# Altium integrated library Sitiboard_2.IntLib: 32 symbols
Pins are listed as number, name and electrical type; pins without a type are passive.

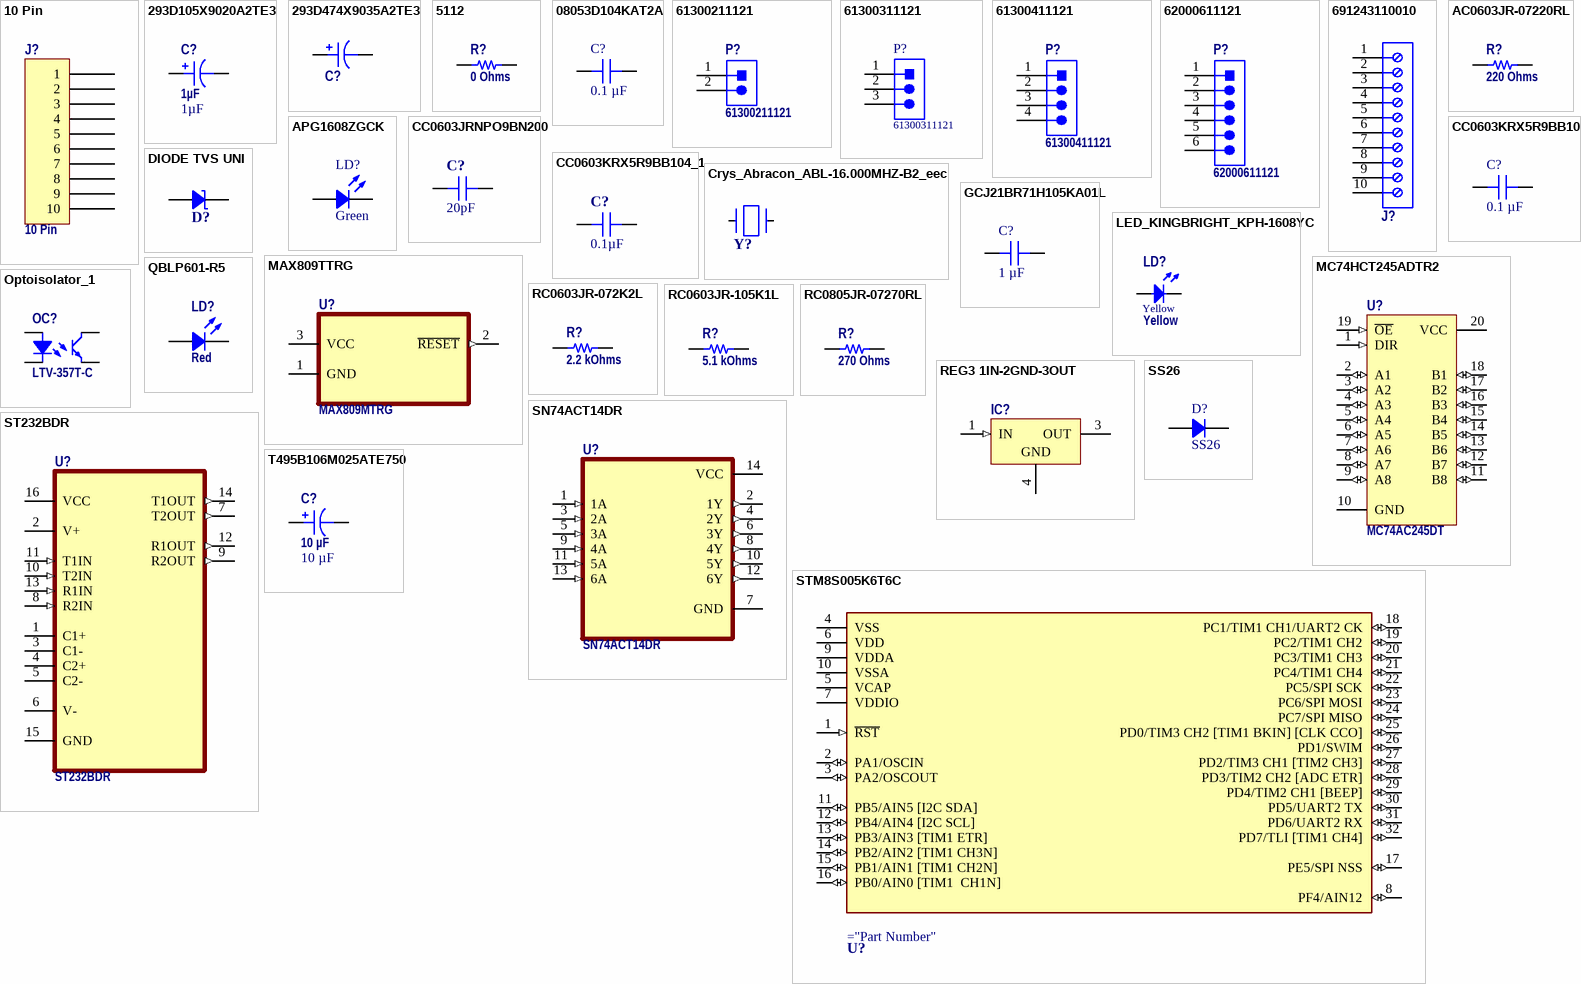
[diagram p0: symbols 10 Pin to T495B106M025ATE750]

## 10 Pin
designator J?
footprint CON: IDC-10MS (IDC-10MS 10 pin PCB-mount header)
footprint CON: IDC-10MS - 1_7mm
pins: 1, 2, 3, 4, 5, 6, 7, 8, 9, 10

## 293D105X9020A2TE3
designator C?, comment 1µF
CAP TANT 1UF 10% 20V 1206; Part Number: 293D105X9020A2TE3; Manufacturer: Vishay Sprague; Manufacturer Size Code: A; ESR (Equivalent Series Resistance): 8.4Ohm; Type: Molded; Value: 1µF; Capacitance: 1µF; ComponentLink1Description: Datasheet; ComponentLink1URL: http://www.vishay.com/docs/40002/293d.pdf; ComponentLink2Description: DigiKey Link; ComponentLink2URL: http://digikey.com/product-detail/en/vishay-sprague/293D105X9020A2TE3/718-1114-1-ND/1559608; Device Package: 1206 (3216 Metric); Features: General Purpose; Height - Seated (Max): 0.071" (1.80mm); LastUpdated: 02.09.2020 1:15:57; Lifecycle Status: Active; Minimum Order: 1; Mounting Type: Surface Mount; Operating Temperature: -55°C ~ 125°C; Package / Case: 1206 (3216 Metric); Packaging: TapeAndReel; PartId: 822; Part Status: Active; Price: 0.11; Series: TANTAMOUNT®, 293D; Size / Dimension: 0.126" L x 0.063" W (3.20mm x 1.60mm); Supplier 1: DigiKey; Supplier Part Number 1: 718-1114-1-ND; Tolerance: ±10%; Voltage - Rated: 20V
footprint CAP POL 1206_3216
pins: 1, 2

## 293D474X9035A2TE3
designator C?, comment 0.47µF  (value not drawn)
CAP TANT 0.47UF 10% 35V 1206; Part Number: 293D474X9035A2TE3; Manufacturer: Vishay Sprague; Manufacturer Size Code: A; ESR (Equivalent Series Resistance): 10Ohm; Type: Molded; Value: 0.47µF; Capacitance: 0.47µF; ComponentLink1Description: Datasheet; ComponentLink1URL: http://www.vishay.com/docs/40002/293d.pdf; ComponentLink2Description: DigiKey Link; ComponentLink2URL: http://digikey.com/product-detail/en/vishay-sprague/293D474X9035A2TE3/718-1808-1-ND/2259950; Device Package: 1206 (3216 Metric); Features: General Purpose; Height - Seated (Max): 0.071" (1.80mm); LastUpdated: 02.09.2020 1:15:57; Lifecycle Status: Active; Minimum Order: 1; Mounting Type: Surface Mount; Operating Temperature: -55°C ~ 125°C; Package / Case: 1206 (3216 Metric); Packaging: TapeAndReel; PartId: 592; Part Status: Active; Price: 0.12; Series: TANTAMOUNT®, 293D; Size / Dimension: 0.126" L x 0.063" W (3.20mm x 1.60mm); Supplier 1: DigiKey; Supplier Part Number 1: 718-1808-1-ND; Tolerance: ±10%; Voltage - Rated: 35V
footprint CAP POL 1206_3216
pins: 1, 2

## 5112
designator R?, comment 0 Ohms
0402 JUMPER ON TAPE AND REEL; Part Number: 5112; Manufacturer: Keystone Electronics; Power (Watts): 0.5W, 1/2W; Value: 0 Ohms; ComponentLink1Description: Datasheet; ComponentLink1URL: http://www.keystoneelectronics.net/ENG._DEPT/WEB_ORACLE/PDF/PDF%20CAT%20NO%20DRAWINGS/5000-5999/5112.PDF; ComponentLink2Description: DigiKey Link; ComponentLink2URL: https://www.digikey.com/en/products/detail/keystone-electronics/5112/9921836; Composition: Metal Element; Device Package: 0402 (1005 Metric); Height - Seated (Max): 0.020" (0.50mm); LastUpdated: 02.01.2023 20:21:07; Lifecycle Status: Active; Minimum Order: 1; Number of Terminations: 2; Package / Case: 0402 (1005 Metric); Packaging: TapeAndReel; PartId: 12597; Part Status: Active; Price: 0.16; Resistance: 0 Ohms; Series: -; Size / Dimension: 0.039" L x 0.020" W (1.00mm x 0.50mm); Supplier 1: DigiKey; Supplier Part Number 1: 36-5112-1-ND; Supplier Device Package: 0402; Tolerance: Jumper
footprint RES 0402_1005
pins: 1, 2

## 08053D104KAT2A
designator C?, comment 0.1 µF
CAP CER 0.1UF 25V X5R 0805; Part Number: 08053D104KAT2A; manufacturer: KYOCERA AVX; Tolerance: ±10%; Value: 0.1 µF; Applications: General Purpose; Capacitance: 0.1 µF; componentlink1description: Datasheet; componentlink1url: https://datasheets.kyocera-avx.com/cx5r.pdf; componentlink2description: DigiKey Link; componentlink2url: https://www.digikey.com/en/products/detail/kyocera-avx/08053D104KAT2A/2345252; Device Package: 0805 (2012 Metric); lastupdated: 23.05.2022 12:57:19; Lifecycle Status: Active; Minimum Order: 1; Mounting Type: Surface Mount, MLCC; Operating Temperature: -55°C ~ 85°C; Package / Case: 0805 (2012 Metric); packaging: TapeAndReel; partid: 33475; Part Status: Active; price: 0.04; series: -; Size / Dimension: 0.079" L x 0.049" W (2.01mm x 1.25mm); Supplier 1: DigiKey; Supplier Part Number 1: 478-08053D104KAT2ACT-ND; Temperature Coefficient: X5R; Thickness (Max): 0.055" (1.40mm); Voltage - Rated: 25V
footprint CAP 0805_2012
pins: 1, 2

## 61300211121
designator P?
WR-PHD Pin Header, THT, pitch 2.54mm, Single Row, Vertical, 2p; Manufacturer: Wurth Elektronik; Pin Number: 2; Rated Current: 3A; Working Voltage: 250VAC; Withstanding Voltage: 500VAC; Contact Resistance: 20mOhm; ComponentLink1Description: Manufacturer; ComponentLink1URL: http://www.we-online.de; ComponentLink2Description: Datasheet; ComponentLink2URL: https://www.we-online.com/catalog/datasheet/61300211121.pdf; Manufacturer Part Number: 61300211121; Pitch: 2.54mm; Operating Temperature: -40 to +105degC; Mounting Technology: THT; Packaging: Bag; Gender: Pin Header; Row Number: Single; Orientation: Vertical
footprint 61300211121
pins: 1, 2

## 61300311121
designator P?
WR-PHD Pin Header, THT, pitch 2.54mm, Single Row, Vertical, 3p; Manufacturer: Wurth Elektronik; Pin Number: 3; Rated Current: 3A; Working Voltage: 250VAC; Withstanding Voltage: 500VAC; Contact Resistance: 20mOhm; ComponentLink1Description: Manufacturer; ComponentLink1URL: http://www.we-online.de; ComponentLink2Description: Datasheet; ComponentLink2URL: https://www.we-online.com/catalog/datasheet/61300311121.pdf; Manufacturer Part Number: 61300311121; Pitch: 2.54mm; Operating Temperature: -40 to +105degC; Mounting Technology: THT; Packaging: Bag; Gender: Pin Header; Row Number: Single; Orientation: Vertical
footprint 61300311121
pins: 1, 2, 3

## 61300411121
designator P?
WR-PHD Pin Header, THT, pitch 2.54mm, Single Row, Vertical, 4p; Manufacturer: Wurth Elektronik; Pin Number: 4; Rated Current: 3A; Working Voltage: 250VAC; Withstanding Voltage: 500VAC; Contact Resistance: 20mOhm; ComponentLink1Description: Manufacturer; ComponentLink1URL: http://www.we-online.de; ComponentLink2Description: Datasheet; ComponentLink2URL: https://www.we-online.com/catalog/datasheet/61300411121.pdf; Manufacturer Part Number: 61300411121; Pitch: 2.54mm; Operating Temperature: -40 to +105degC; Mounting Technology: THT; Packaging: Bag; Gender: Pin Header; Row Number: Single; Orientation: Vertical
footprint 61300411121
pins: 1, 2, 3, 4

## 62000611121
designator P?
WR-PHD Pin Header, THT, pitch 2mm, Single Row, Vertical, 6p; Manufacturer: Wurth Elektronik; Pin Number: 6; Rated Current: 2A; Working Voltage: 200VAC; Withstanding Voltage: 500VAC; Contact Resistance: 20mOhm; ComponentLink1Description: Manufacturer; ComponentLink1URL: http://www.we-online.de; ComponentLink2Description: Datasheet; ComponentLink2URL: https://www.we-online.com/catalog/datasheet/62000611121.pdf; Manufacturer Part Number: 62000611121; Pitch: 2mm; Operating Temperature: -40 to +105degC; Mounting Technology: THT; Packaging: Bag; Gender: Pin Header; Row Number: Single; Orientation: Vertical
footprint 62000611121
pins: 1, 2, 3, 4, 5, 6

## 691243110010
designator J?  (value not drawn)
WR-TBL Serie 2431 Horizontal Cable Entry, Rising Cage Clamp, THT, pitch 3.5mm, 10p; Manufacturer: Wurth Elektronik; Modularity: No; PCB/Cable/Panel: PCB; Pin Number: 10; Rated Current [UL]: 10A; Working Voltage [UL]: 300VAC; ComponentLink1Description: Manufacturer; ComponentLink1URL: http://www.we-online.de; ComponentLink2URL: https://katalog.we-online.de/em/datasheet/691243110010.pdf; ComponentLink2Description: Datasheet; Mounting Technology: THT; Manufacturer Part Number: 691243110010; Packaging: Box; Operating Temperature: -30 to +120degC; Pitch: 3.5mm; Published Date: Feburary 2021; Type: Horizontal; Application: Rising Cage Clamp
footprint 691243110010
pins: 1, 2, 3, 4, 5, 6, 7, 8, 9, 10

## AC0603JR-07220RL
designator R?, comment 220 Ohms
RES SMD 220 OHM 5% 1/10W 0603; Part Number: AC0603JR-07220RL; Manufacturer: Yageo; Power (Watts): 0.1W, 1/10W; Temperature Coefficient: ±100ppm/°C; Value: 220 Ohms; ComponentLink1Description: Datasheet; ComponentLink1URL: https://www.yageo.com/upload/media/product/productsearch/datasheet/rchip/PYu-AC_51_RoHS_L_7.pdf; ComponentLink2Description: DigiKey Link; ComponentLink2URL: http://digikey.com/product-detail/en/yageo/AC0603JR-07220RL/YAG3652CT-ND/6006501; Composition: Thick Film; Device Package: 0603 (1608 Metric); Features: Automotive AEC-Q200, Moisture Resistant; Height - Seated (Max): 0.022" (0.55mm); LastUpdated: 02.09.2020 1:10:02; Lifecycle Status: Active; Minimum Order: 1; Number of Terminations: 2; Operating Temperature: -55°C ~ 155°C; Package / Case: 0603 (1608 Metric); Packaging: CutTape; PartId: 15757; Part Status: Active; Price: 0.10; Ratings: AEC-Q200; Resistance: 220 Ohms; Series: AC; Size / Dimension: 0.063" L x 0.031" W (1.60mm x 0.80mm); Supplier 1: DigiKey; Supplier Part Number 1: YAG3652CT-ND; Supplier Device Package: 0603; Tolerance: ±5%
footprint RES 0603_1608
pins: 1, 2

## APG1608ZGCK
designator LD?, comment Green
LED GREEN CLEAR 0603 SMD; Part Number: APG1608ZGCK; Manufacturer: Kingbright; Configuration: Independent; Current - Test: 20mA; Lens Color: Colorless; Lens Size: 1.20mm x 0.80mm; Lens Style: Rectangle with Flat Top; Millicandela Rating: 400mcd; Viewing Angle: 130°; Voltage - Forward (Vf) (Typ): 3.3V; Wavelength - Dominant: 525nm; Wavelength - Peak: 515nm; Color: Green; ComponentLink1Description: Datasheet; ComponentLink1URL: http://www.kingbrightusa.com/images/catalog/SPEC/APG1608ZGCK.pdf; ComponentLink2Description: DigiKey Link; ComponentLink2URL: https://www.digikey.com/en/products/detail/kingbright/APG1608ZGCK/7318966; Device Package: 0603 (1608 Metric); Height (Max): 0.28mm; LastUpdated: 14.06.2022 21:41:41; Lens Transparency: Clear; Lifecycle Status: Active; Minimum Order: 1; Mounting Type: Surface Mount; Package / Case: 0603 (1608 Metric); Packaging: TapeAndReel; PartId: 627; Part Status: Active; Price: 0.14; Series: -; Size / Dimension: 1.60mm L x 0.80mm W; Supplier 1: DigiKey; Supplier Part Number 1: 754-2113-1-ND; Supplier Device Package: 0603; Value: Green
footprint LED 0603_1608 GREEN
pins: 1, 2

## CC0603JRNPO9BN200
designator C?, comment 20pF
CAP CER 20PF 50V C0G/NPO 0603; Part Number: CC0603JRNPO9BN200; Manufacturer: Yageo; Temperature Coefficient: C0G, NP0; Tolerance: ±5%; Value: 20pF; Applications: General Purpose; Capacitance: 20pF; ComponentLink1Description: Datasheet; ComponentLink1URL: https://www.yageo.com/upload/media/product/productsearch/datasheet/mlcc/UPY-GP_NP0_16V-to-50V_17.pdf; ComponentLink2Description: DigiKey Link; ComponentLink2URL: http://digikey.com/product-detail/en/yageo/CC0603JRNPO9BN200/311-1424-1-ND/2833730; Device Package: 0603 (1608 Metric); LastUpdated: 02.09.2020 1:03:05; Lifecycle Status: Active; Minimum Order: 1; Mounting Type: Surface Mount, MLCC; Operating Temperature: -55°C ~ 125°C; Package / Case: 0603 (1608 Metric); Packaging: TapeAndReel; PartId: 16728; Part Status: Active; Price: 0.01; Series: CC; Size / Dimension: 0.063" L x 0.031" W (1.60mm x 0.80mm); Supplier 1: DigiKey; Supplier Part Number 1: 311-1424-1-ND; Thickness (Max): 0.035" (0.90mm); Voltage - Rated: 50V
footprint CAP 0603_1608
pins: 1, 2

## CC0603KRX5R9BB104
designator C?, comment 0.1 µF
CAP CER 0.1UF 50V X5R 0603; Part Number: CC0603KRX5R9BB104; manufacturer: Yageo; Tolerance: ±10%; Value: 0.1 µF; Applications: General Purpose; Capacitance: 0.1 µF; componentlink1description: Datasheet; componentlink1url: https://www.yageo.com/upload/media/product/productsearch/datasheet/mlcc/UPY-GPHC_X5R_4V-to-50V_25.pdf; componentlink2description: DigiKey Link; componentlink2url: https://www.digikey.com/en/products/detail/yageo/CC0603KRX5R9BB104/5883729; Device Package: 0603 (1608 Metric); lastupdated: 14.06.2022 2:43:49; Lifecycle Status: Active; Minimum Order: 1; Mounting Type: Surface Mount, MLCC; Operating Temperature: -55°C ~ 85°C; Package / Case: 0603 (1608 Metric); packaging: TapeAndReel; partid: 15794; Part Status: Active; price: 0.01; series: CC; Size / Dimension: 0.063" L x 0.031" W (1.60mm x 0.80mm); Supplier 1: DigiKey; Supplier Part Number 1: 311-4046-1-ND; Temperature Coefficient: X5R; Thickness (Max): 0.035" (0.90mm); Voltage - Rated: 50V
footprint CAP 0603_1608
pins: 1, 2

## CC0603KRX5R9BB104_1
designator C?, comment 0.1µF
CAP CER 0.1UF 50V X5R 0603; Part Number: CC0603KRX5R9BB104; Manufacturer: Yageo; Tolerance: ±10%; Value: 0.1µF; Applications: General Purpose; Capacitance: 0.1µF; ComponentLink1Description: Datasheet; ComponentLink1URL: https://www.yageo.com/upload/media/product/productsearch/datasheet/mlcc/UPY-GPHC_X5R_4V-to-50V_25.pdf; ComponentLink2Description: DigiKey Link; ComponentLink2URL: http://digikey.com/product-detail/en/yageo/CC0603KRX5R9BB104/311-4046-1-ND/8025135; Device Package: 0603 (1608 Metric); LastUpdated: 02.09.2020 1:03:08; Lifecycle Status: Active; Minimum Order: 1; Mounting Type: Surface Mount, MLCC; Operating Temperature: -55°C ~ 85°C; Package / Case: 0603 (1608 Metric); Packaging: TapeAndReel; PartId: 15794; Part Status: Active; Price: 0.01; Series: CC; Size / Dimension: 0.063" L x 0.031" W (1.60mm x 0.80mm); Supplier 1: DigiKey; Supplier Part Number 1: 311-4046-1-ND; Temperature Coefficient: X5R; Thickness (Max): 0.035" (0.90mm); Voltage - Rated: 50V
footprint CAP 0603_1608
pins: 1, 2

## Crys_Abracon_ABL-16.000MHZ-B2_eec
designator Y?  (value not drawn)
CRYS 16MHz ±20ppm Crystal 18pF 40 Ohm -20°C ~ 70°C Through Hole HC49/US; Frequency Stability: ±50ppm; ESR: 40 Ohm; Operating Mode: Fundamental; Part Number: ABL-16.000MHZ-B2; helpURL: https://upverter.com/upn/revision/7ebf07e1da2eb130/; ComponentLink2Description: Datasheet; Temperature: 0ºC to +70ºC; Package: HC/49US; Supplier 2: Mouser; Price: 0.175999999027; Supplier 1: Digi-Key; ComponentLink1URL: https://upverter.com/upn/revision/7ebf07e1da2eb130/; Supplier Part Number 2: 815-ABL-16-B2; Supplier Part Number 1: 535-9041-ND; Manufacturer: Abracon; ComponentLink1Description: Upverter; ComponentLink2URL: http://www.abracon.com/Resonators/ABL.pdf; RoHS: TRUE; Mouser Part Number: 815-ABL-16-B2; Frequency Tolerance: ±20ppm; Temperature Range High: +70ºC; Digikey Description: CRYS 16MHz ±20ppm Crystal 18pF 40 Ohm -20°C ~ 70°C Through Hole HC49/US; Digikey Part Number: 535-9041-ND; Lead Free: yes; Temperature Range Low: 0ºC; Load Capacitance: 18pF; Frequency: 16MHz
footprint Abracon_ABL-16.000MHZ-B2_0
pins: 1, 2

## DIODE TVS UNI
designator D?, comment SMBJ15CA-E3/52  (value not drawn)
Rectifier Diode
footprint DO214AA SMB (Molded Diode, 2-Leads, Body 4.31x3.62mm, IPC Medium Density)
pins: 1, 2

## GCJ21BR71H105KA01L
designator C?, comment 1 µF
CAP CER 1UF 50V X7R 0805; Part Number: GCJ21BR71H105KA01L; manufacturer: Murata Electronics; Tolerance: ±10%; Value: 1 µF; Applications: Automotive, Boardflex Sensitive; Capacitance: 1 µF; componentlink1description: Datasheet; componentlink1url: https://www.murata.com/~/media/webrenewal/support/library/catalog/products/capacitor/mlcc/c03e.ashx?la=en-us; componentlink2description: DigiKey Link; componentlink2url: https://www.digikey.com/en/products/detail/murata-electronics/GCJ21BR71H105KA01L/4903512; Device Package: 0805 (2012 Metric); Features: Soft Termination; lastupdated: 23.05.2022 12:58:09; Lifecycle Status: Active; Minimum Order: 1; Mounting Type: Surface Mount, MLCC; Operating Temperature: -55°C ~ 125°C; Package / Case: 0805 (2012 Metric); packaging: TapeAndReel; partid: 2709; Part Status: Active; price: 0.06; Ratings: AEC-Q200; series: GCJ; Size / Dimension: 0.079" L x 0.049" W (2.00mm x 1.25mm); Supplier 1: DigiKey; Supplier Part Number 1: 490-10667-1-ND; Temperature Coefficient: X7R; Thickness (Max): 0.057" (1.45mm); Voltage - Rated: 50V
footprint CAP 0805_2012
pins: 1, 2

## LED_KINGBRIGHT_KPH-1608YC
designator LD?, comment Yellow
LED Yellow 1C 2A; Part Number: LED_KINGBRIGHT_KPH-1608YC; Part Description: SMD Yellow LED, Case 1.6mmX0.8mm(0603), 0.65mm Thickness; Manufacturer: KINGBRIGHT; Manufacturer Part Number: KPH-1608YC; PressFit: No; Bonding: No; Component Kind: Standard; Component Type: Standard; Color: Yellow; Footprint: LED_KINGBRIGHT_KPH-1608YC; PackageDescription: SMT Yellow LED, Case 0603, Body L 1.6 x W 0.8mm H 0.65mm; Pin Count: 2; Mounted: Yes; Socket: No; SMD: Yes; Sense: No; ComponentHeight: 0.65mm; HelpURL: \\cern.ch\dfs\Applications\Altium\Datasheets\LED_KINGBRIGHT_KPH-1608YC.pdf; Author: CERN DEM JLC; CreateDate: 03.07.2017; LatestRevisionDate: 03.07.2017
footprint LED_KINGBRIGHT_KPH-1608YC
pins: 1 C, 2 A

## MAX809TTRG
designator U?, comment MAX809MTRG
Supervisor Push-Pull, Totem Pole 1 Channel SOT-23-3 (TO-236); MF: ON Semiconductor; MP: MAX809TTRG; Availability: Unavailable; Package: SOT-23-3 ON Semiconductor; Price: None; SnapEDA_Link: https://www.snapeda.com/parts/MAX809TTRG/ON%20Semiconductor/view-part/47418/?ref=snap; Value: *; Check_prices: https://www.snapeda.com/parts/MAX809TTRG/ON%20Semiconductor/view-part/47418/?ref=eda
footprint SOT95P240X111-3N
pins: 1 GND, 2 ~{RESET} (out), 3 VCC (power)

## MC74HCT245ADTR2
designator U?, comment MC74AC245DT
Octal 3-State Non-Inverting Bus Transceiver with LSTTL-Compatible Inputs; Published: 15-Apr-2002; LatestRevisionDate: 12-Dec-2006; LatestRevisionNote: IPC-7351 Footprint Added.; DatasheetVersion: Mar-2000; PackageVersion: Mar-2000; PackageReference: 948E-02; Publisher: Altium Limited; PackageDescription: 20-Pin Thin Small Outline Package 0.65 mm Pitch; ComponentLink1Description: Manufacturer Link; ComponentLink1URL: http://www.onsemi.com/; ComponentLink2Description: Datasheet; ComponentLink2URL: http://www.onsemi.com/pub/Collateral/MC74HCT245A-D.PDF
footprint 948E-02_N (TSOP, 20-Leads, Body 6.5x4.4mm, Pitch 0.65mm, IPC Medium Density)
footprint 948E-02_L (TSOP, 20-Leads, Body 6.5x4.4mm, Pitch 0.65mm, IPC High Density)
footprint 948E-02_M (TSOP, 20-Leads, Body 6.5x4.4mm, Pitch 0.65mm, IPC Low Density)
signal-integrity model MC74HCT245ADTR2
pins: 1 DIR (in), 2 A1 (io), 3 A2 (io), 4 A3 (io), 5 A4 (io), 6 A5 (io), 7 A6 (io), 8 A7 (io), 9 A8 (io), 10 GND (power), 11 B8 (io), 12 B7 (io), 13 B6 (io), 14 B5 (io), 15 B4 (io), 16 B3 (io), 17 B2 (io), 18 B1 (io), 19 ~{OE} (in), 20 VCC (power)

## Optoisolator_1
designator OC?, comment LTV-357T-C
footprint LITEON LTV-357T (SOP, 4-Leads, Body 3.85x4.4mm, Pitch 2.54mm, IPC Medium Density)
pins: 1, 2, 3, 4

## QBLP601-R5
designator LD?, comment Red
0603 LED RED 625NM, CLEAR LENS,; Part Number: QBLP601-R5; Manufacturer: QT Brightek (QTB); Configuration: Standard; Current - Test: 5mA; Lens Color: Colorless; Lens Size: 1.10mm x 0.80mm; Lens Style: Rectangle with Flat Top; Millicandela Rating: 27mcd; Viewing Angle: 140°; Voltage - Forward (Vf) (Typ): 1.8V; Color: Red; ComponentLink1Description: Datasheet; ComponentLink1URL: https://www.qt-brightek.com/datasheet/QBLP601-R5.pdf; ComponentLink2Description: DigiKey Link; ComponentLink2URL: https://www.digikey.com/en/products/detail/qt-brightek-qtb/QBLP601-R5/16499683; Device Package: 0603 (1608 Metric); Height (Max): 0.70mm; LastUpdated: 02.01.2023 20:57:02; Lens Transparency: Clear; Lifecycle Status: Active; Minimum Order: 1; Mounting Type: Surface Mount; Package / Case: 0603 (1608 Metric); Packaging: TapeAndReel; PartId: 1088; Part Status: Active; Price: 0.03; Series: QBLP601; Size / Dimension: 1.60mm L x 0.80mm W; Supplier 1: DigiKey; Supplier Part Number 1: 1516-QBLP601-R5CT-ND; Supplier Device Package: 0603; Value: Red; Wavelength - Dominant: 625nm
footprint LED 0603_1608 RED
pins: 1, 2

## RC0603JR-072K2L
designator R?, comment 2.2 kOhms
RES SMD 2.2K OHM 5% 1/10W 0603; Part Number: RC0603JR-072K2L; Manufacturer: Yageo; Power (Watts): 0.1W, 1/10W; Temperature Coefficient: ±100ppm/°C; Value: 2.2 kOhms; ComponentLink1Description: Datasheet; ComponentLink1URL: https://www.yageo.com/upload/media/product/productsearch/datasheet/rchip/PYu-RC_Group_51_RoHS_L_10.pdf; ComponentLink2Description: DigiKey Link; ComponentLink2URL: http://digikey.com/product-detail/en/yageo/RC0603JR-072K2L/311-2.2KGRCT-ND/729676; Composition: Thick Film; Device Package: 0603 (1608 Metric); Features: Moisture Resistant; Height - Seated (Max): 0.022" (0.55mm); LastUpdated: 02.09.2020 1:09:59; Lifecycle Status: Active; Minimum Order: 1; Number of Terminations: 2; Operating Temperature: -55°C ~ 155°C; Package / Case: 0603 (1608 Metric); Packaging: CutTape; PartId: 17075; Part Status: Active; Price: 0.10; Resistance: 2.2 kOhms; Series: RC; Size / Dimension: 0.063" L x 0.031" W (1.60mm x 0.80mm); Supplier 1: DigiKey; Supplier Part Number 1: 311-2.2KGRCT-ND; Supplier Device Package: 0603; Tolerance: ±5%
footprint RES 0603_1608
pins: 1, 2

## RC0603JR-105K1L
designator R?, comment 5.1 kOhms
RES 5.1K OHM 5% 1/10W 0603; Part Number: RC0603JR-105K1L; Manufacturer: Yageo; Power (Watts): 0.1W, 1/10W; Temperature Coefficient: ±100ppm/°C; Value: 5.1 kOhms; ComponentLink1Description: Datasheet; ComponentLink1URL: https://www.yageo.com/upload/media/product/productsearch/datasheet/rchip/PYu-RC_Group_51_RoHS_L_11.pdf; ComponentLink2Description: DigiKey Link; ComponentLink2URL: https://www.digikey.com/en/products/detail/yageo/RC0603JR-105K1L/14286802; Composition: Thick Film; Device Package: 0603 (1608 Metric); Height - Seated (Max): 0.022" (0.55mm); LastUpdated: 02.01.2023 20:28:00; Lifecycle Status: Active; Minimum Order: 1; Number of Terminations: 2; Operating Temperature: -55°C ~ 155°C; Package / Case: 0603 (1608 Metric); Packaging: CutTape; PartId: 65538; Part Status: Active; Price: 0.01; Resistance: 5.1 kOhms; Series: RC_L; Size / Dimension: 0.063" L x 0.031" W (1.60mm x 0.80mm); Supplier 1: DigiKey; Supplier Part Number 1: 13-RC0603JR-105K1LCT-ND; Supplier Device Package: 0603; Tolerance: ±5%
footprint RES 0603_1608
pins: 1, 2

## RC0805JR-07270RL
designator R?, comment 270 Ohms
RES SMD 270 OHM 5% 1/8W 0805; Part Number: RC0805JR-07270RL; Manufacturer: Yageo; Power (Watts): 0.125W, 1/8W; Temperature Coefficient: ±100ppm/°C; Value: 270 Ohms; ComponentLink1Description: Datasheet; ComponentLink1URL: https://www.yageo.com/upload/media/product/productsearch/datasheet/rchip/PYu-RC_Group_51_RoHS_L_10.pdf; ComponentLink2Description: DigiKey Link; ComponentLink2URL: http://digikey.com/product-detail/en/yageo/RC0805JR-07270RL/311-270ARCT-ND/731238; Composition: Thick Film; Device Package: 0805 (2012 Metric); Features: Moisture Resistant; Height - Seated (Max): 0.024" (0.60mm); LastUpdated: 02.09.2020 1:14:53; Lifecycle Status: Active; Minimum Order: 1; Number of Terminations: 2; Operating Temperature: -55°C ~ 155°C; Package / Case: 0805 (2012 Metric); Packaging: CutTape; PartId: 41820; Part Status: Active; Price: 0.10; Resistance: 270 Ohms; Series: RC; Size / Dimension: 0.079" L x 0.049" W (2.00mm x 1.25mm); Supplier 1: DigiKey; Supplier Part Number 1: 311-270ARCT-ND; Supplier Device Package: 0805; Tolerance: ±5%
footprint RES 0805_2012
pins: 1, 2

## REG3 1IN-2GND-3OUT
designator IC?, comment MC7805BDTG  (value not drawn)
3-Terminal Regulator 1=IN 2=GND 3=OUT
footprint TO-252AA
pins: 1 IN (in), 3 OUT (power), 4 GND (power)

## SN74ACT14DR
designator U?
Package: None; Price: None; Value: *; MP: SN74ACT14DR; Availability: Unavailable
footprint SOIC127P600X175-14N
footprint 14-SOIC (pitch 1.27 mm)
pins: 1 1A (in), 2 1Y (out), 3 2A (in), 4 2Y (out), 5 3A (in), 6 3Y (out), 7 GND (power), 8 4Y (out), 9 4A (in), 10 5Y (out), 11 5A (in), 12 6Y (out), 13 6A (in), 14 VCC (power)

## SS26
designator D?
DIODE SCHOTTKY 60V 2A DO214AA; Manufacturer: ON Semiconductor; Current - Reverse Leakage @ Vr: 400µA @ 60V; Speed: Fast Recovery =< 500ns, > 200mA (Io); Voltage - Forward (Vf) (Max) @ If: 700mV @ 2A; Part Number: SS26; ComponentLink1Description: Datasheet; ComponentLink1URL: https://www.onsemi.com/pub/Collateral/SS29-D.pdf; ComponentLink2Description: DigiKey Link; ComponentLink2URL: http://digikey.com/product-detail/en/on-semiconductor/SS26/SS26FSCT-ND/965731; Current - Average Rectified (Io): 2A; Diode Type: Schottky; LastUpdated: 23.05.2022 13:35:43; Lifecycle Status: Active; Minimum Order: 1; Mounting Type: Surface Mount; Operating Temperature - Junction: -65°C ~ 125°C; Package / Case: DO-214AA, SMB; Packaging: TapeAndReel; PartId: 1378; Part Status: Active; Price: 0.09; Series: -; Supplier 1: DigiKey; Supplier Part Number 1: SS26FSCT-ND; Supplier Device Package: DO-214AA (SMB); Voltage - DC Reverse (Vr) (Max): 60V
footprint DO214AA SMB
pins: 1, 2

## ST232BDR
designator U?
2/2 Transceiver Full RS232 16-SO; MF: STMicroelectronics; SnapEDA_Link: https://www.snapeda.com/parts/ST232BDR/STMicroelectronics/view-part/87836/?ref=snap; Value: *; Price: None; Availability: Unavailable; MP: ST232BDR; Package: SOIC-16 STMicroelectronics
footprint SOIC127P600X175-16N
footprint 16-SO (pitch 1.27 mm)
pins: 1 C1+, 2 V+ (power), 3 C1-, 4 C2+, 5 C2-, 6 V- (power), 7 T2OUT (out), 8 R2IN (in), 9 R2OUT (out), 10 T2IN (in), 11 T1IN (in), 12 R1OUT (out), 13 R1IN (in), 14 T1OUT (out), 15 GND, 16 VCC (power)

## STM8S005K6T6C
designator U?  (value not drawn)
footprint STMicroelectronics_LQFP32-5V_0
pins: 1 ~{RST} (in), 2 PA1/OSCIN (io), 3 PA2/OSCOUT (io), 4 VSS (power), 5 VCAP (power), 6 VDD (power), 7 VDDIO (power), 8 PF4/AIN12 (io), 9 VDDA (power), 10 VSSA (power), 11 PB5/AIN5 [I2C SDA] (io), 12 PB4/AIN4 [I2C SCL] (io), 13 PB3/AIN3 [TIM1 ETR] (io), 14 PB2/AIN2 [TIM1 CH3N] (io), 15 PB1/AIN1 [TIM1 CH2N] (io), 16 PB0/AIN0 [TIM1  CH1N] (io), 17 PE5/SPI NSS (io), 18 PC1/TIM1 CH1/UART2 CK (io), 19 PC2/TIM1 CH2 (io), 20 PC3/TIM1 CH3 (io), 21 PC4/TIM1 CH4 (io), 22 PC5/SPI SCK (io), 23 PC6/SPI MOSI (io), 24 PC7/SPI MISO (io), 25 PD0/TIM3 CH2 [TIM1 BKIN] [CLK CCO] (io), 26 PD1/SWIM (io), 27 PD2/TIM3 CH1 [TIM2 CH3] (io), 28 PD3/TIM2 CH2 [ADC ETR] (io), 29 PD4/TIM2 CH1 [BEEP] (io), 30 PD5/UART2 TX (io), 31 PD6/UART2 RX (io), 32 PD7/TLI [TIM1 CH4] (io)

## T495B106M025ATE750
designator C?, comment 10 µF
CAP TANT 10UF 20% 25V 1411; Part Number: T495B106M025ATE750; manufacturer: KEMET; Manufacturer Size Code: B; ESR (Equivalent Series Resistance): 750mOhm @ 100kHz; Lifetime @ Temp.: 2000 Hrs @ 125°C; Type: Molded; Value: 10 µF; Capacitance: 10 µF; componentlink1description: Datasheet; componentlink1url: https://api.kemet.com/component-edge/download/datasheet/T495B106M025ATE750.pdf; componentlink2description: DigiKey Link; componentlink2url: https://www.digikey.com/en/products/detail/kemet/T495B106M025ATE750/9642230; Device Package: 1411 (3528 Metric); Features: General Purpose; Height - Seated (Max): 0.083" (2.10mm); lastupdated: 02.01.2023 20:45:17; Lifecycle Status: Active; Minimum Order: 1; Mounting Type: Surface Mount; Operating Temperature: -55°C ~ 125°C; Package / Case: 1411 (3528 Metric); packaging: TapeAndReel; partid: 1378; Part Status: Active; price: 0.50; series: T495; Size / Dimension: 0.138" L x 0.110" W (3.50mm x 2.80mm); Supplier 1: DigiKey; Supplier Part Number 1: 399-18816-1-ND; Tolerance: ±20%; Voltage - Rated: 25 V
footprint CAP POL 1411_3528
pins: 1, 2